# Altium footprint library Altium_Footprints.PcbLib: 38 footprints (part 1 of 3)
Each footprint in its own frame and in the unit in brackets; x right, y up, seen from the top. Pads: shape width x height; smd on the part's side, far side on the other; paste and mask are expansions set on the pad; w line width, h text height; cw(c..) or ccw(c..) is an arc to the next point about the centre after c.
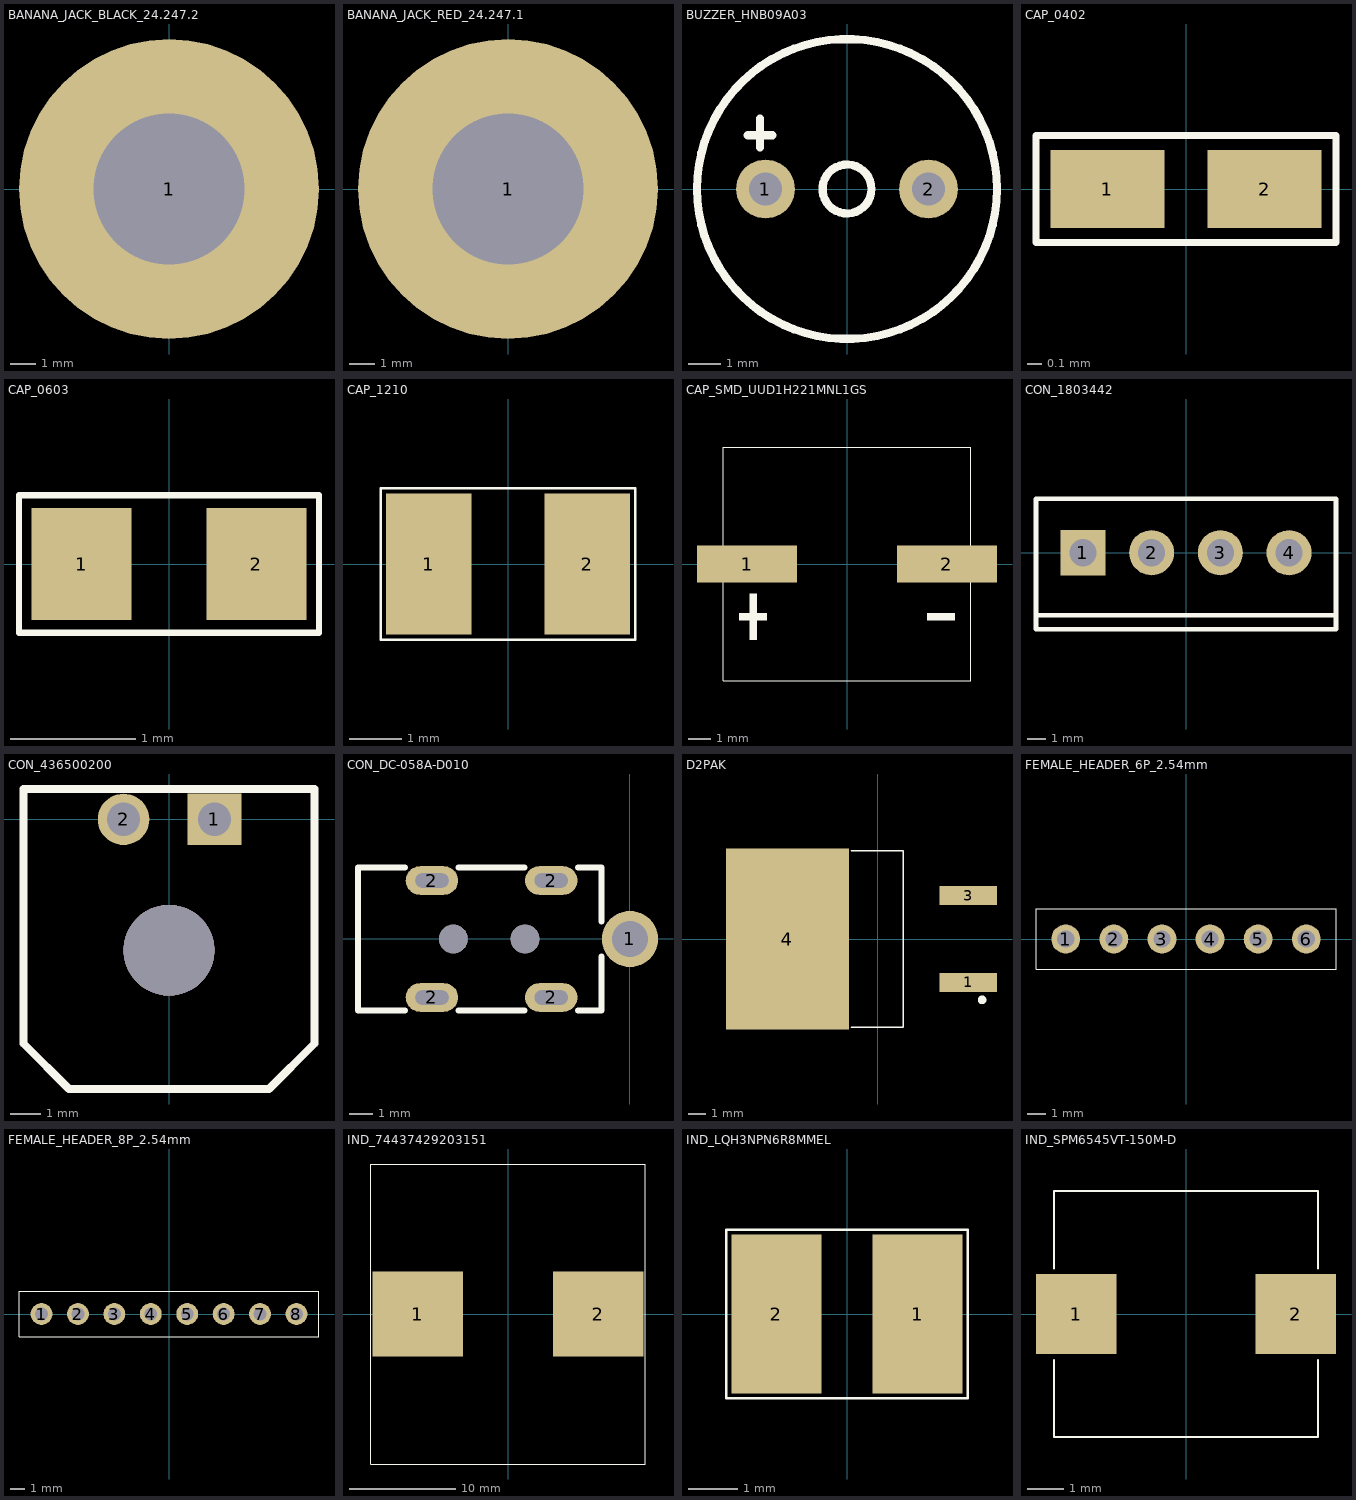
[diagram p0: the footprints below, top view; thin cyan lines are the x and y axes]

## BANANA_JACK_BLACK_24.247.2 [mm]
pads (1):
  round 12 hole 6.05: 1(0,0)
3D body: height 11, standoff 0, extent -5,-5 5,5

## BANANA_JACK_RED_24.247.1 [mm]
pads (1):
  round 12 hole 6.05: 1(0,0)
3D body: height 11, standoff 0, extent -5,-5 5,5

## BUZZER_HNB09A03 [mm]
pads (2):
  round 1.8 hole 1 paste+0 mask+0.051: 1(-2.5,0) 2(2.5,0)
Top Overlay:
  circle w0.254: c0,0 r4.6
  circle w0.254: c0,0 r0.75
  lines w0.254: -3.048,1.651 -2.286,1.651 ; -2.667,1.27 -2.667,2.159
3D body: height 5.5, standoff 0, extent -4.5,-4.5 4.5,4.5

## CAP_0402 [mm]
pads (2):
  rect 0.79x0.54 smd paste-100 mask+0.051: 1(-0.545,0) 2(0.545,0)
Top Overlay:
  lines w0.05: 1.036,-0.369 1.04,-0.364 1.04,0.37 -1.04,0.37 -1.04,-0.37 1.04,-0.37 ; 1.04,-0.37 0.941,-0.37 1.04,-0.37
Top Paste:
  region: -0.18,0.225 -0.18,-0.225 -0.25,-0.275 -0.73,-0.275 -0.78,-0.225 -0.78,0.225 -0.73,0.275 -0.25,0.275
  region: 0.78,0.225 0.78,-0.225 0.73,-0.275 0.25,-0.275 0.18,-0.225 0.18,0.225 0.25,0.275 0.73,0.275
3D body "User Library-CerCaps.step": height 0.51, standoff -0.01, extent -0.595,-0.262 0.595,0.262

## CAP_0603 [mm]
pads (2):
  rect 0.8x0.9 smd paste+0 mask+0.051: 1(-0.7,0) 2(0.7,0)
Top Overlay:
  lines w0.05: -1.2,-0.55 -1.2,0.55 1.2,0.55 1.2,-0.55 -1.2,-0.55
3D body "User Library-CerCaps (1).step": height 0.81, standoff -0.01, extent -0.93,-0.413 0.93,0.413

## CAP_1210 [mm]
pads (2):
  rect 1.635x2.7 smd paste-100 mask+0.051: 1(-1.517,0) 2(1.517,0)
Top Overlay:
  lines w0.05: -2.43,-1.45 2.43,-1.45 2.43,1.45 -2.43,1.45 -2.43,-1.45
Top Paste:
  region: 0.7,-1.25 0.7,-0.559 0.8,-0.459 1.156,-0.459 1.256,-0.359 1.256,0.359 1.156,0.459 0.8,0.459 0.7,0.559 0.7,1.25 0.8,1.35 2.235,1.35 2.335,1.25 2.335,-1.25 2.235,-1.35 0.8,-1.35
  region: -0.7,-1.25 -0.7,-0.559 -0.8,-0.459 -1.156,-0.459 -1.256,-0.359 -1.256,0.359 -1.156,0.459 -0.8,0.459 -0.7,0.559 -0.7,1.25 -0.8,1.35 -2.235,1.35 -2.335,1.25 -2.335,-1.25 -2.235,-1.35 -0.8,-1.35
3D body "User Library-CAP_SMD-1.step": height 2.2, standoff 0, extent -1.8,-1.4 1.8,1.4

## CAP_SMD_UUD1H221MNL1GS [mm]
pads (2):
  rect 4.5x1.65 smd paste+0 mask+0.051: 1(-4.5,0) 2(4.5,0)
Top Overlay:
  region: -4.378,-1.339 -4.378,-3.399 -4.068,-3.399 -4.068,-1.339
  region: -4.841,-2.214 -4.841,-2.523 -3.605,-2.523 -3.605,-2.214
  region: 4.841,-2.214 4.841,-2.523 3.605,-2.523 3.605,-2.214
  lines w0.05: -5.562,-5.258 5.562,-5.258 5.562,5.258 -5.562,5.258 -5.562,-5.258
Mechanical 15:
  region: -4.841,0.155 -4.841,-0.155 -3.605,-0.155 -3.605,0.155
  region: 4.841,0.155 4.841,-0.155 3.605,-0.155 3.605,0.155
3D body "UUD1H221MNL1GS.step": height 10.8, standoff 0, extent -5.45,-5.15 5.45,5.15

## CON_1803442 [mm]
pads (4):
  rect 2.5x2.5 hole 1.5 paste+0 mask+0.051: 1(-5.715,0)
  round 2.5 hole 1.5 paste+0 mask+0.051: 2(-1.905,0) 3(1.905,0) 4(5.715,0)
Top Overlay:
  lines w0.254: -8.315,-3.476 8.315,-3.476 ; -8.315,-4.25 -8.315,3 8.315,3 8.315,-4.25 -8.315,-4.25
3D body "1803442.step": height 9.2, standoff -3.4, extent -8.203,-4.329 8.428,2.921

## CON_436500200 [mm]
pads (3):
  rect 1.778x1.7 hole 1.1 paste+0 mask+0.051: 1(1.5,0)
  round 1.7 hole 1.1 paste+0 mask+0.051: 2(-1.5,0)
  round 3 hole 3 unplated paste+0: ""(0,-4.32)
Top Overlay:
  lines w0.254: -4.8,-7.4 -3.3,-8.9 3.3,-8.9 4.8,-7.4 4.8,1 -4.8,1 -4.8,-7.4
Mechanical 15:
  circle w1.5: c0,-4.32 r0.75
3D body "436500200.stp": height 5.06, standoff -3.81, extent -4.699,-9.014 4.951,0.886

## CON_DC-058A-D010 [mm]
pads (7):
  round 2.35 hole 1.5 paste+0 mask+0.05: 1(0,0)
  oval 2.2x1.2 hole 0.6 slot 1.4 at 0 deg paste+0 mask+0.05: 2(-8.3,-2.45) 2(-8.3,2.45) 2(-3.3,-2.45) 2(-3.3,2.45)
  round 1.2 hole 1.2 unplated paste+0: ""(-7.4,0) ""(-4.4,0)
Top Overlay:
  lines w0.254: -9.422,-3 -11.4,-3 -11.4,3 -9.422,3 ; -7.178,-3 -4.422,-3 ; -7.178,3 -4.422,3 ; -2.178,-3 -1.2,-3 -1.2,-0.731 ; -2.178,3 -1.2,3 -1.2,0.731
Mechanical 15:
  circle w0.4: c-4.4,0 r0.2
  circle w0.4: c-7.4,0 r0.2
3D body: height 4.6, standoff 0, extent -11.4,-3 -1.2,3

## D2PAK [mil]
pads (3):
  rect 132.23x44.65 smd paste+0 mask+2: 1(208.1,-100) 3(208.1,100)
  rect 282.7x416 smd paste+0 mask+2: 4(-208.1,0)
Top Overlay:
  circle w10: c240,-140 r5
  lines w3.94: -60.75,-203 58.3,-203 58.3,203 -60.75,203
Mechanical 15:
  circle w11.81: c226.45,-98.54 r5.91
3D body "User Library-d2pak_a.step": height 177.17, standoff -1.25, extent -329.78,-202.45 261.03,199.12

## FEMALE_HEADER_6P_2.54mm [mil]
pads (6):
  round 60 hole 35.43: 1(-250,0) 2(-150,0) 3(-50,0) 4(50,0) 5(150,0) 6(250,0)
Top Overlay:
  lines w1.97: -311.81,-62.99 -311.81,62.99 311.81,62.99 311.81,-62.99 -311.81,-62.99
3D body "6-Pin Header - Female - 2.54mm.step": height 196.85, standoff -118.11, extent -309.84,-49.21 309.84,49.21

## FEMALE_HEADER_8P_2.54mm [mil]
pads (8):
  round 60 hole 35.43: 1(-350,0) 2(-250,0) 3(-150,0) 4(-50,0) 5(50,0) 6(150,0) 7(250,0) 8(350,0)
Top Overlay:
  lines w1.97: -411.81,-62.99 -411.81,62.99 411.81,62.99 411.81,-62.99 -411.81,-62.99
3D body "8-Pin Header - Female - 2.54mm.step": height 196.85, standoff -118.11, extent -409.84,-49.21 409.84,49.21

## IND_74437429203151 [mm]
pads (2):
  rect 8.5x8 smd: 1(-8.5,0) 2(8.5,0)
Top Overlay:
  lines w0.05: -12.935,-14.123 -12.935,14.123 12.935,14.123 12.935,-14.123 -12.935,-14.123
3D body "IND_WE-HCF_2920_WRE.step": height 20.5, standoff 0, extent -12.497,-13.995 12.497,13.995

## IND_LQH3NPN6R8MMEL [mm]
pads (2):
  rect 1.824x3.22 smd paste+0 mask+0.051: 1(1.428,0) 2(-1.428,0)
Top Overlay:
  lines w0.05: -2.442,1.609 -2.442,1.709 ; -2.442,1.709 -2.342,1.709 2.442,1.709 2.442,-1.709 -2.442,-1.709 -2.442,1.709
3D body "LQH3NPN6R8MMEL.step": height 1.5, standoff 0, extent -1.5,-1.5 1.5,1.5

## IND_SPM6545VT-150M-D [mm]
pads (2):
  rect 2.2x2.2 smd paste+0 mask+0.051: 1(-3,0) 2(3,0)
Top Overlay:
  lines w0.05: -3.61,-1.252 -3.61,-3.366 3.61,-3.366 3.61,-1.252 ; -3.61,1.243 -3.61,3.366 3.61,3.366 3.61,1.243
3D body "SPM6545VT-150M-D.step": height 4.5, standoff 0, extent -3.5,-3.25 3.5,3.25